# EAGLE library part M38747(80PIN) (library renesas_mcu)
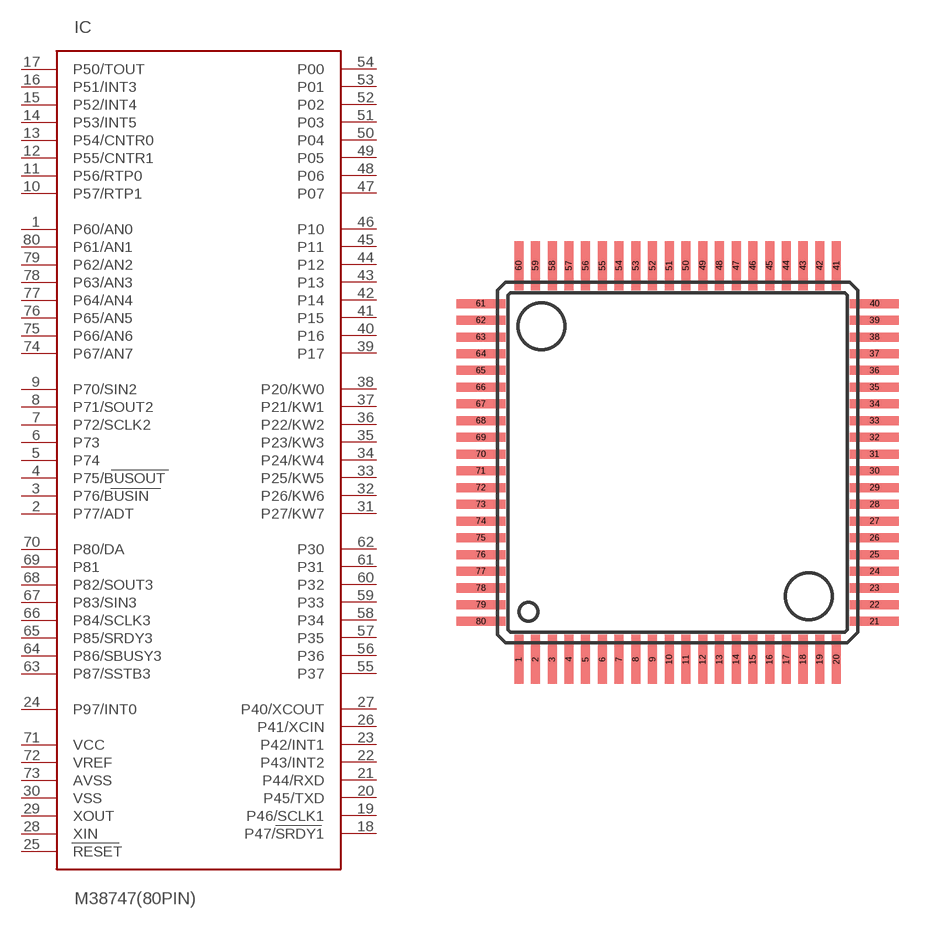
[diagram p74: symbol with the pads of 80P6S-A; footprint 80P6S-A]

Designator prefix IC

## M38747(80PIN)GP  [80P6S-A]
1  P60/AN0
2  P77/ADT
3  P76/BUSIN
4  P75/BUSOUT
5  P74
6  P73
7  P72/SCLK2
8  P71/SOUT2
9  P70/SIN2
10  P57/RTP1
11  P56/RTP0
12  P55/CNTR1
13  P54/CNTR0
14  P53/INT5
15  P52/INT4
16  P51/INT3
17  P50/TOUT
18  P47/SRDY1
19  P46/SCLK1
20  P45/TXD
21  P44/RXD
22  P43/INT2
23  P42/INT1
24  P97/INT0
25  RESET
26  P41/XCIN
27  P40/XCOUT
28  XIN
29  XOUT
30  VSS
31  P27/KW7
32  P26/KW6
33  P25/KW5
34  P24/KW4
35  P23/KW3
36  P22/KW2
37  P21/KW1
38  P20/KW0
39  P17
40  P16
41  P15
42  P14
43  P13
44  P12
45  P11
46  P10
47  P07
48  P06
49  P05
50  P04
51  P03
52  P02
53  P01
54  P00
55  P37
56  P36
57  P35
58  P34
59  P33
60  P32
61  P31
62  P30
63  P87/SSTB3
64  P86/SBUSY3
65  P85/SRDY3
66  P84/SCLK3
67  P83/SIN3
68  P82/SOUT3
69  P81
70  P80/DA
71  VCC
72  VREF
73  AVSS
74  P67/AN7
75  P66/AN6
76  P65/AN5
77  P64/AN4
78  P63/AN3
79  P62/AN2
80  P61/AN1

## Footprint 80P6S-A (pad centres in mm)
smd 0.35 x 1.9: 1 -6.175,-7.65; 2 -5.525,-7.65; 3 -4.875,-7.65; 4 -4.225,-7.65; 5 -3.575,-7.65; 6 -2.925,-7.65; 7 -2.275,-7.65; 8 -1.625,-7.65; 9 -0.975,-7.65; 10 -0.325,-7.65; 11 0.325,-7.65; 12 0.975,-7.65; 13 1.625,-7.65; 14 2.275,-7.65; 15 2.925,-7.65; 16 3.575,-7.65; 17 4.225,-7.65; 18 4.875,-7.65; 19 5.525,-7.65; 20 6.175,-7.65; 41 6.175,7.65; 42 5.525,7.65; 43 4.875,7.65; 44 4.225,7.65; 45 3.575,7.65; 46 2.925,7.65; 47 2.275,7.65; 48 1.625,7.65; 49 0.975,7.65; 50 0.325,7.65; 51 -0.325,7.65; 52 -0.975,7.65; 53 -1.625,7.65; 54 -2.275,7.65; 55 -2.925,7.65; 56 -3.575,7.65; 57 -4.225,7.65; 58 -4.875,7.65; 59 -5.525,7.65; 60 -6.175,7.65
smd 1.9 x 0.35: 21 7.65,-6.175; 22 7.65,-5.525; 23 7.65,-4.875; 24 7.65,-4.225; 25 7.65,-3.575; 26 7.65,-2.925; 27 7.65,-2.275; 28 7.65,-1.625; 29 7.65,-0.975; 30 7.65,-0.325; 31 7.65,0.325; 32 7.65,0.975; 33 7.65,1.625; 34 7.65,2.275; 35 7.65,2.925; 36 7.65,3.575; 37 7.65,4.225; 38 7.65,4.875; 39 7.65,5.525; 40 7.65,6.175; 61 -7.65,6.175; 62 -7.65,5.525; 63 -7.65,4.875; 64 -7.65,4.225; 65 -7.65,3.575; 66 -7.65,2.925; 67 -7.65,2.275; 68 -7.65,1.625; 69 -7.65,0.975; 70 -7.65,0.325; 71 -7.65,-0.325; 72 -7.65,-0.975; 73 -7.65,-1.625; 74 -7.65,-2.275; 75 -7.65,-2.925; 76 -7.65,-3.575; 77 -7.65,-4.225; 78 -7.65,-4.875; 79 -7.65,-5.525; 80 -7.65,-6.175